# Altium schematic symbol library Schlib1.SchLib: 138 symbols
Pins are listed as number, name and electrical type; pins without a type are passive.

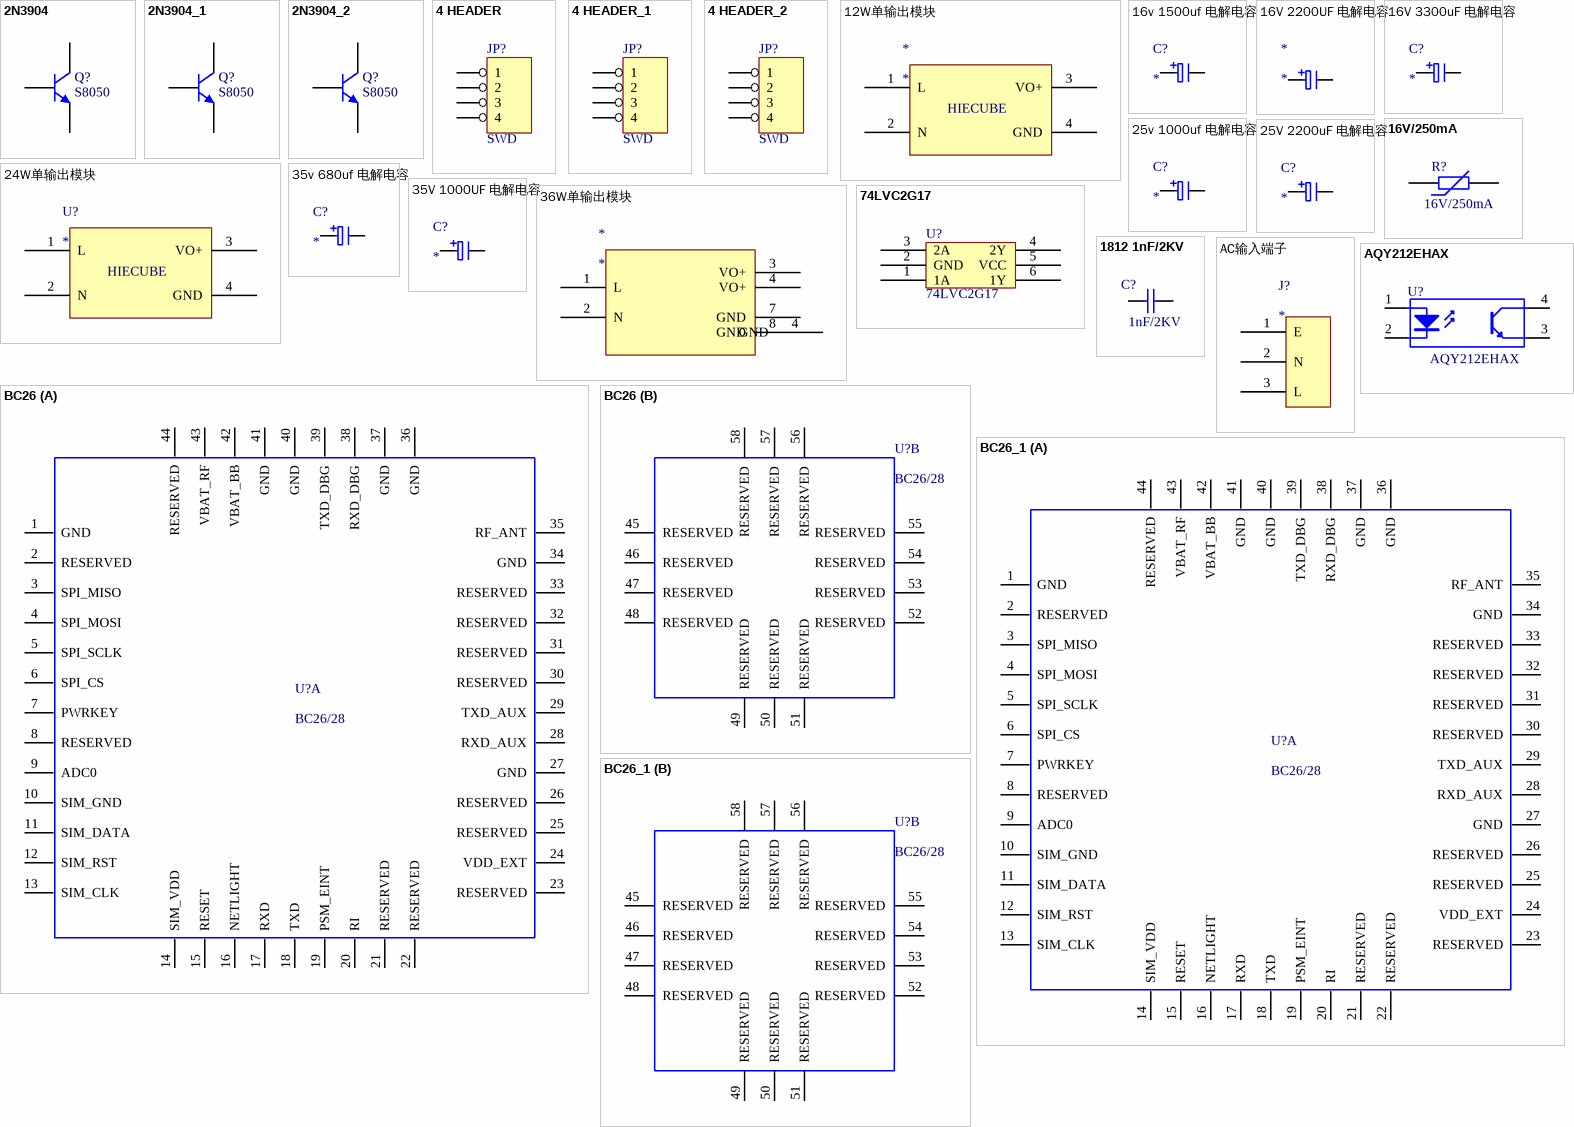
[diagram p0: symbols 2N3904 to BC26_1]

## 2N3904
designator Q?, comment S8050
NPN General Purpose Amplifier; Published: 8-Jun-2000; LatestRevisionDate: 15-Jan-2003; LatestRevisionNote: PCB Footprint 'BCY-W3/D4.7' replaced; DatasheetVersion: 1997; PackageVersion: Sep-1998; PackageReference: TO-92A; Publisher: Altium Limited; PackageDescription: TO, Flat Index; 3 In-Line, Axial Leads; Body Dia. 4.5mm; Leads 0.51 x 0.48 mm (max); ComponentLink1Description: Manufacturer Link; ComponentLink1URL: http://www.fairchildsemi.com/; ComponentLink2Description: Datasheet; ComponentLink2URL: http://www.fairchildsemi.com/ds/2N%2F2N3904.pdf
simulation model 2N3904 (NPN)
signal-integrity model 2N3904
footprint s8550
pins: 1 E, 2 B, 3 C

## 2N3904_1
designator Q?, comment S8050
NPN General Purpose Amplifier; Published: 8-Jun-2000; LatestRevisionDate: 15-Jan-2003; LatestRevisionNote: PCB Footprint 'BCY-W3/D4.7' replaced; DatasheetVersion: 1997; PackageVersion: Sep-1998; PackageReference: TO-92A; Publisher: Altium Limited; PackageDescription: TO, Flat Index; 3 In-Line, Axial Leads; Body Dia. 4.5mm; Leads 0.51 x 0.48 mm (max); ComponentLink1Description: Manufacturer Link; ComponentLink1URL: http://www.fairchildsemi.com/; ComponentLink2Description: Datasheet; ComponentLink2URL: http://www.fairchildsemi.com/ds/2N%2F2N3904.pdf
simulation model 2N3904 (NPN)
signal-integrity model 2N3904
footprint s8550
pins: 1 E, 2 B, 3 C

## 2N3904_2
designator Q?, comment S8050
NPN General Purpose Amplifier; Published: 8-Jun-2000; LatestRevisionDate: 15-Jan-2003; LatestRevisionNote: PCB Footprint 'BCY-W3/D4.7' replaced; DatasheetVersion: 1997; PackageVersion: Sep-1998; PackageReference: TO-92A; Publisher: Altium Limited; PackageDescription: TO, Flat Index; 3 In-Line, Axial Leads; Body Dia. 4.5mm; Leads 0.51 x 0.48 mm (max); ComponentLink1Description: Manufacturer Link; ComponentLink1URL: http://www.fairchildsemi.com/; ComponentLink2Description: Datasheet; ComponentLink2URL: http://www.fairchildsemi.com/ds/2N%2F2N3904.pdf
simulation model 2N3904 (NPN)
signal-integrity model 2N3904
footprint s8550
pins: 1 E, 2 B, 3 C

## 4 HEADER
designator JP?, comment SWD
4 Pin Header
footprint SIP4
pins: 1, 2, 3, 4

## 4 HEADER_1
designator JP?, comment SWD
4 Pin Header
footprint SIP4
pins: 1, 2, 3, 4

## 4 HEADER_2
designator JP?, comment SWD
4 Pin Header
footprint SIP4
pins: 1, 2, 3, 4

## 12W单输出模块
designator *
pins: 1 L, 2 N, 3 VO+, 4 GND
text: HIECUBE

## 16v 1500uf 电解电容
designator C?
pins: 1, 2

## 16V 2200UF 电解电容
designator *
pins: 1, 2

## 16V 3300uF 电解电容
designator C?
pins: 1, 2

## 16V/250mA
designator R?
自恢复保险丝
footprint LC-1206_R
pins: 1, 2

## 24W单输出模块
designator U?
pins: 1 L, 2 N, 3 VO+, 4 GND
text: HIECUBE

## 25v 1000uf 电解电容
designator C?
pins: 1, 2

## 25V 2200uF 电解电容
designator C?
pins: 1, 2

## 35v 680uf 电解电容
designator C?
pins: 1, 2

## 35V 1000UF 电解电容
designator C?
pins: 1, 2

## 36W单输出模块
designator *
pins: 1 L, 2 N, 3 VO+, 4 VO+, 4 GND, 7 GND, 8 GND

## 74LVC2G17
designator U?
pins: 1 1A, 2 GND, 3 2A, 4 2Y, 5 VCC, 6 1Y

## 1812 1nF/2KV
designator C?, comment 1nF/2KV
高压电容
footprint LC-1812_C
pins: 1, 2

## AC输入端子
designator J?
pins: 1 E, 2 N, 3 L

## AQY212EHAX
designator U?
光电固态继电器
footprint LC-SMD-4
pins: 1 A "Anode", 2 K "Cathode", 3 E "Emitter", 4 C "Collector"

## BC26
designator U?, comment BC26/28
Part Description: *; Value: *; Geometry.Height: *; Manufacturer: *; PCB DECAL: *
footprint bc26
part A pins: 1 GND, 2 RESERVED, 3 SPI_MISO, 4 SPI_MOSI, 5 SPI_SCLK, 6 SPI_CS, 7 PWRKEY, 8 RESERVED, 9 ADC0, 10 SIM_GND, 11 SIM_DATA, 12 SIM_RST, 13 SIM_CLK, 14 SIM_VDD, 15 RESET, 16 NETLIGHT, 17 RXD, 18 TXD, 19 PSM_EINT, 20 RI, 21 RESERVED, 22 RESERVED, 23 RESERVED, 24 VDD_EXT, 25 RESERVED, 26 RESERVED, 27 GND, 28 RXD_AUX, 29 TXD_AUX, 30 RESERVED, 31 RESERVED, 32 RESERVED, 33 RESERVED, 34 GND, 35 RF_ANT, 36 GND, 37 GND, 38 RXD_DBG, 39 TXD_DBG, 40 GND, 41 GND, 42 VBAT_BB, 43 VBAT_RF, 44 RESERVED
part B pins: 45 RESERVED, 46 RESERVED, 47 RESERVED, 48 RESERVED, 49 RESERVED, 50 RESERVED, 51 RESERVED, 52 RESERVED, 53 RESERVED, 54 RESERVED, 55 RESERVED, 56 RESERVED, 57 RESERVED, 58 RESERVED
2 alternate drawings of the same symbol

## BC26_1
designator U?, comment BC26/28
Part Description: *; Value: *; Geometry.Height: *; Manufacturer: *; PCB DECAL: *
footprint bc26
part A pins: 1 GND, 2 RESERVED, 3 SPI_MISO, 4 SPI_MOSI, 5 SPI_SCLK, 6 SPI_CS, 7 PWRKEY, 8 RESERVED, 9 ADC0, 10 SIM_GND, 11 SIM_DATA, 12 SIM_RST, 13 SIM_CLK, 14 SIM_VDD, 15 RESET, 16 NETLIGHT, 17 RXD, 18 TXD, 19 PSM_EINT, 20 RI, 21 RESERVED, 22 RESERVED, 23 RESERVED, 24 VDD_EXT, 25 RESERVED, 26 RESERVED, 27 GND, 28 RXD_AUX, 29 TXD_AUX, 30 RESERVED, 31 RESERVED, 32 RESERVED, 33 RESERVED, 34 GND, 35 RF_ANT, 36 GND, 37 GND, 38 RXD_DBG, 39 TXD_DBG, 40 GND, 41 GND, 42 VBAT_BB, 43 VBAT_RF, 44 RESERVED
part B pins: 45 RESERVED, 46 RESERVED, 47 RESERVED, 48 RESERVED, 49 RESERVED, 50 RESERVED, 51 RESERVED, 52 RESERVED, 53 RESERVED, 54 RESERVED, 55 RESERVED, 56 RESERVED, 57 RESERVED, 58 RESERVED
2 alternate drawings of the same symbol

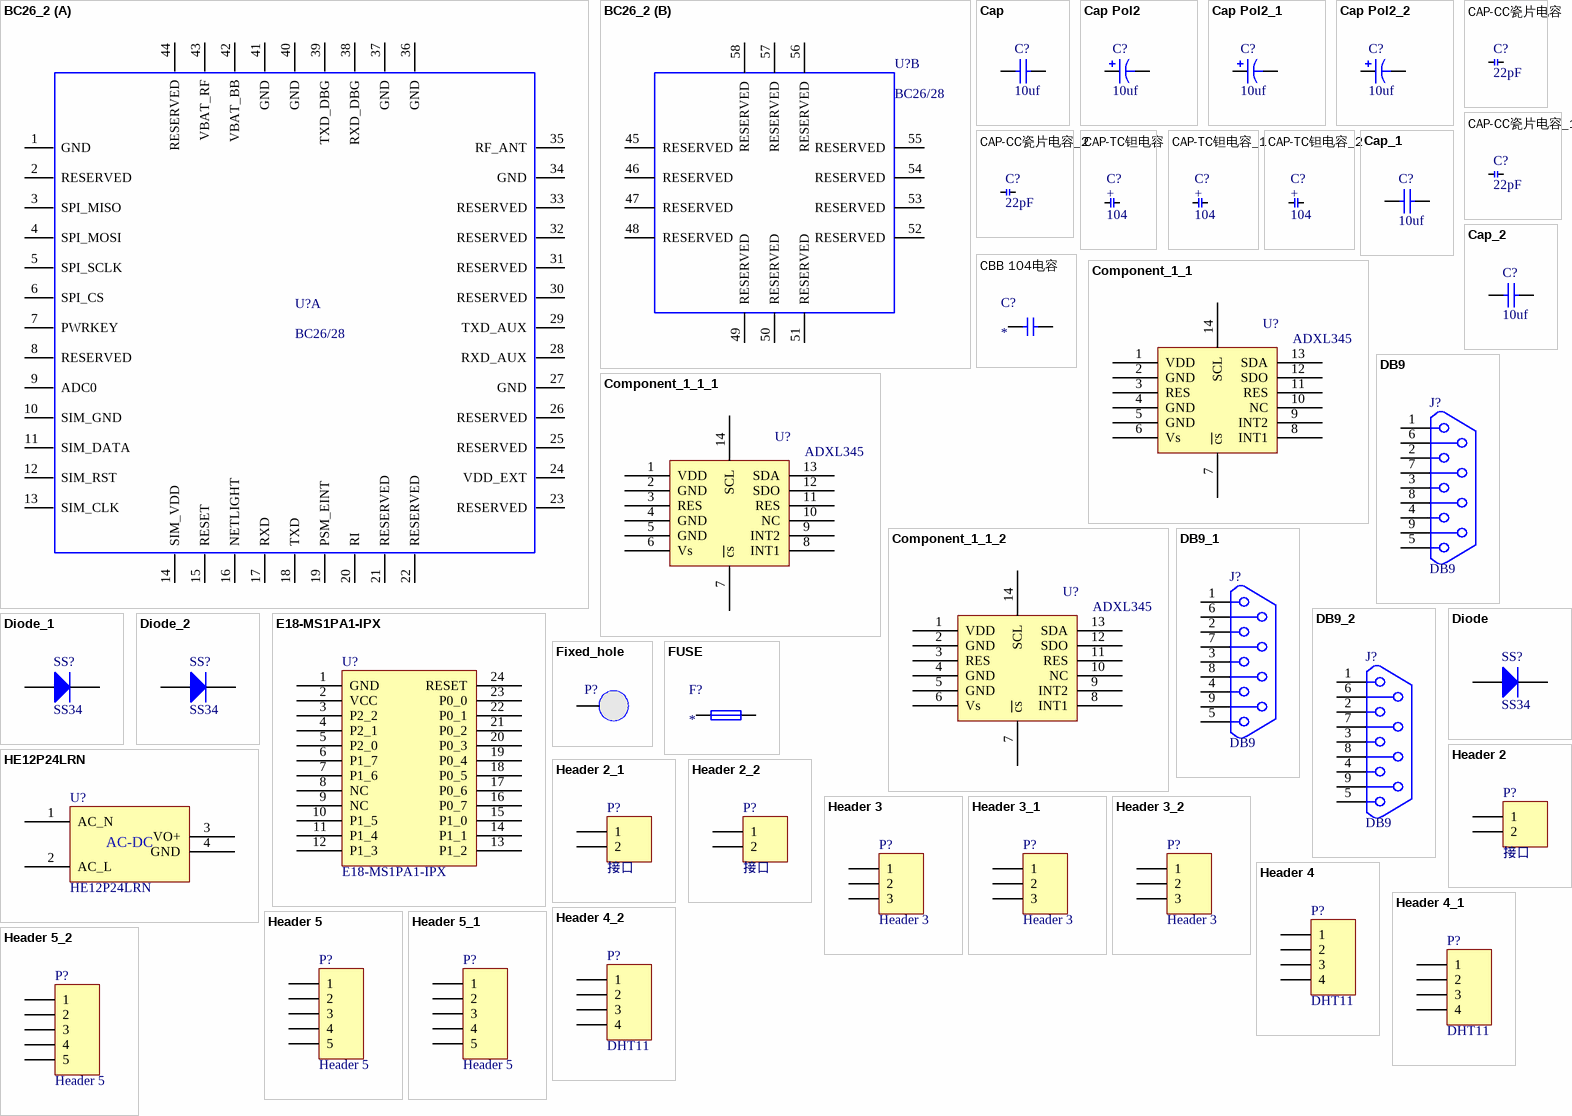
[diagram p1: symbols BC26_2 to Header 5_2]

## BC26_2
designator U?, comment BC26/28
Part Description: *; Value: *; Geometry.Height: *; Manufacturer: *; PCB DECAL: *
footprint bc26
part A pins: 1 GND, 2 RESERVED, 3 SPI_MISO, 4 SPI_MOSI, 5 SPI_SCLK, 6 SPI_CS, 7 PWRKEY, 8 RESERVED, 9 ADC0, 10 SIM_GND, 11 SIM_DATA, 12 SIM_RST, 13 SIM_CLK, 14 SIM_VDD, 15 RESET, 16 NETLIGHT, 17 RXD, 18 TXD, 19 PSM_EINT, 20 RI, 21 RESERVED, 22 RESERVED, 23 RESERVED, 24 VDD_EXT, 25 RESERVED, 26 RESERVED, 27 GND, 28 RXD_AUX, 29 TXD_AUX, 30 RESERVED, 31 RESERVED, 32 RESERVED, 33 RESERVED, 34 GND, 35 RF_ANT, 36 GND, 37 GND, 38 RXD_DBG, 39 TXD_DBG, 40 GND, 41 GND, 42 VBAT_BB, 43 VBAT_RF, 44 RESERVED
part B pins: 45 RESERVED, 46 RESERVED, 47 RESERVED, 48 RESERVED, 49 RESERVED, 50 RESERVED, 51 RESERVED, 52 RESERVED, 53 RESERVED, 54 RESERVED, 55 RESERVED, 56 RESERVED, 57 RESERVED, 58 RESERVED
2 alternate drawings of the same symbol

## Cap
designator C?, comment 10uf
Capacitor; Value: 100pF; Published: 8-Jun-2000; LatestRevisionDate: 17-Jul-2002; LatestRevisionNote: Re-released for DXP Platform.; PackageReference: RAD-0.3; Publisher: Altium Limited; PackageDescription: Radial Cap, Thru-Hole; 2 Leads; 0.3 in Pin Spacing
simulation model CAP (Capacitor)
signal-integrity model Cap
footprint 0603A
pins: 1, 2

## Cap Pol2
designator C?, comment 10uf
Polarized Capacitor (Axial); Value: 100pF; Published: 8-Jun-2000; LatestRevisionDate: 17-Jul-2002; LatestRevisionNote: Re-released for DXP Platform.; PackageReference: POLAR0.8; Publisher: Altium Limited; PackageDescription: Polarized Capacitor; 2 Leads
footprint 1206
simulation model CAP (Capacitor)
signal-integrity model Cap Pol
pins: 1, 2
1 alternate drawing of the same symbol

## Cap Pol2_1
designator C?, comment 10uf
Polarized Capacitor (Axial); Value: 100pF; Published: 8-Jun-2000; LatestRevisionDate: 17-Jul-2002; LatestRevisionNote: Re-released for DXP Platform.; PackageReference: POLAR0.8; Publisher: Altium Limited; PackageDescription: Polarized Capacitor; 2 Leads
footprint 1206
simulation model CAP (Capacitor)
signal-integrity model Cap Pol
pins: 1, 2
1 alternate drawing of the same symbol

## Cap Pol2_2
designator C?, comment 10uf
Polarized Capacitor (Axial); Value: 100pF; Published: 8-Jun-2000; LatestRevisionDate: 17-Jul-2002; LatestRevisionNote: Re-released for DXP Platform.; PackageReference: POLAR0.8; Publisher: Altium Limited; PackageDescription: Polarized Capacitor; 2 Leads
footprint 1206
simulation model CAP (Capacitor)
signal-integrity model Cap Pol
pins: 1, 2
1 alternate drawing of the same symbol

## CAP-CC瓷片电容
designator C?, comment 22pF
footprint 0603A
pins: 1, 2

## CAP-CC瓷片电容_1
designator C?, comment 22pF
footprint 0603A
pins: 1, 2

## CAP-CC瓷片电容_2
designator C?, comment 22pF
footprint 0603A
pins: 1, 2

## CAP-TC钽电容
designator C?, comment 104
footprint 0603A
pins: 1 +, 2 -
2 alternate drawings of the same symbol

## CAP-TC钽电容_1
designator C?, comment 104
footprint 0603A
pins: 1 +, 2 -
2 alternate drawings of the same symbol

## CAP-TC钽电容_2
designator C?, comment 104
footprint 0603A
pins: 1 +, 2 -
2 alternate drawings of the same symbol

## Cap_1
designator C?, comment 10uf
Capacitor; Value: 100pF; Published: 8-Jun-2000; LatestRevisionDate: 17-Jul-2002; LatestRevisionNote: Re-released for DXP Platform.; PackageReference: RAD-0.3; Publisher: Altium Limited; PackageDescription: Radial Cap, Thru-Hole; 2 Leads; 0.3 in Pin Spacing
simulation model CAP (Capacitor)
signal-integrity model Cap
footprint 0603A
pins: 1, 2

## Cap_2
designator C?, comment 10uf
Capacitor; Value: 100pF; Published: 8-Jun-2000; LatestRevisionDate: 17-Jul-2002; LatestRevisionNote: Re-released for DXP Platform.; PackageReference: RAD-0.3; Publisher: Altium Limited; PackageDescription: Radial Cap, Thru-Hole; 2 Leads; 0.3 in Pin Spacing
simulation model CAP (Capacitor)
signal-integrity model Cap
footprint 0603A
pins: 1, 2

## CBB 104电容
designator C?
pins: 1, 2

## Component_1_1
designator U?, comment ADXL345
footprint adxl345
pins: 1 VDD, 2 GND, 3 RES, 4 GND, 5 GND, 6 Vs, 7 ~{cs}, 8 INT1, 9 INT2, 10 NC, 11 RES, 12 SDO, 13 SDA, 14 SCL

## Component_1_1_1
designator U?, comment ADXL345
footprint adxl345
pins: 1 VDD, 2 GND, 3 RES, 4 GND, 5 GND, 6 Vs, 7 ~{cs}, 8 INT1, 9 INT2, 10 NC, 11 RES, 12 SDO, 13 SDA, 14 SCL

## Component_1_1_2
designator U?, comment ADXL345
footprint adxl345
pins: 1 VDD, 2 GND, 3 RES, 4 GND, 5 GND, 6 Vs, 7 ~{cs}, 8 INT1, 9 INT2, 10 NC, 11 RES, 12 SDO, 13 SDA, 14 SCL

## DB9
designator J?
footprint DB9_M
pins: 1, 2, 3, 4, 5, 6, 7, 8, 9
2 alternate drawings of the same symbol

## DB9_1
designator J?, comment DB9
footprint DB9_M
pins: 1, 2, 3, 4, 5, 6, 7, 8, 9
2 alternate drawings of the same symbol

## DB9_2
designator J?, comment DB9
footprint DB9_M
pins: 1, 2, 3, 4, 5, 6, 7, 8, 9
2 alternate drawings of the same symbol

## Diode
designator SS?, comment SS34
Default Diode; Published: 8-Jun-2000; LatestRevisionDate: 17-Jul-2002; LatestRevisionNote: Re-released for DXP Platform.; PackageVersion: Sep-1996; PackageReference: SMC; Publisher: Altium Limited; PackageDescription: DO-214-AB/SMC; 2 C-Bend Leads; Body 7.9 x 5.9 mm, inc. leads (LxW); Code_JEDEC: DO-214-AB
footprint SMB (DO-214-AA/SMB; 2 C-Bend Leads; Body 5.3 x 3.6 mm, inc. leads (LxW))
simulation model DIODE (Diode)
signal-integrity model Diode
pins: 1 A, 2 K

## Diode_1
designator SS?, comment SS34
Default Diode; Published: 8-Jun-2000; LatestRevisionDate: 17-Jul-2002; LatestRevisionNote: Re-released for DXP Platform.; PackageVersion: Sep-1996; PackageReference: SMC; Publisher: Altium Limited; PackageDescription: DO-214-AB/SMC; 2 C-Bend Leads; Body 7.9 x 5.9 mm, inc. leads (LxW); Code_JEDEC: DO-214-AB
footprint SMB (DO-214-AA/SMB; 2 C-Bend Leads; Body 5.3 x 3.6 mm, inc. leads (LxW))
simulation model DIODE (Diode)
signal-integrity model Diode
pins: 1 A, 2 K

## Diode_2
designator SS?, comment SS34
Default Diode; Published: 8-Jun-2000; LatestRevisionDate: 17-Jul-2002; LatestRevisionNote: Re-released for DXP Platform.; PackageVersion: Sep-1996; PackageReference: SMC; Publisher: Altium Limited; PackageDescription: DO-214-AB/SMC; 2 C-Bend Leads; Body 7.9 x 5.9 mm, inc. leads (LxW); Code_JEDEC: DO-214-AB
footprint SMB (DO-214-AA/SMB; 2 C-Bend Leads; Body 5.3 x 3.6 mm, inc. leads (LxW))
simulation model DIODE (Diode)
signal-integrity model Diode
pins: 1 A, 2 K

## E18-MS1PA1-IPX
designator U?
footprint E18-MS1PA1-IPX
pins: 1 GND, 2 VCC, 3 P2_2, 4 P2_1, 5 P2_0, 6 P1_7, 7 P1_6, 8 NC, 9 NC, 10 P1_5, 11 P1_4, 12 P1_3, 13 P1_2, 14 P1_1, 15 P1_0, 16 P0_7, 17 P0_6, 18 P0_5, 19 P0_4, 20 P0_3, 21 P0_2, 22 P0_1, 23 P0_0, 24 RESET

## Fixed_hole
designator P?  (value not drawn)
固定孔
footprint Fixed_hole (固定孔)
pins: 1 (power)

## FUSE
designator F?
pins: 1, 2

## HE12P24LRN
designator U?
footprint HE12P24LRN
pins: 1 AC_N, 2 AC_L, 3 VO+, 4 GND
text: AC-DC

## Header 2
designator P?, comment 接口
Header, 2-Pin; LatestRevisionDate: 17-Jul-2002; LatestRevisionNote: Re-released for DXP Platform.; Publisher: Altium Limited
footprint HDR1X2 (Connector; Header; 2 Position)
signal-integrity model Connector
pins: 1, 2

## Header 2_1
designator P?, comment 接口
Header, 2-Pin; LatestRevisionDate: 17-Jul-2002; LatestRevisionNote: Re-released for DXP Platform.; Publisher: Altium Limited
footprint HDR1X2 (Connector; Header; 2 Position)
signal-integrity model Connector
pins: 1, 2

## Header 2_2
designator P?, comment 接口
Header, 2-Pin; LatestRevisionDate: 17-Jul-2002; LatestRevisionNote: Re-released for DXP Platform.; Publisher: Altium Limited
footprint HDR1X2 (Connector; Header; 2 Position)
signal-integrity model Connector
pins: 1, 2

## Header 3
designator P?
Header, 3-Pin; LatestRevisionDate: 17-Jul-2002; LatestRevisionNote: Re-released for DXP Platform.; Publisher: Altium Limited
footprint PIN3-5
signal-integrity model Connector
pins: 1, 2, 3

## Header 3_1
designator P?, comment Header 3
Header, 3-Pin; LatestRevisionDate: 17-Jul-2002; LatestRevisionNote: Re-released for DXP Platform.; Publisher: Altium Limited
footprint PIN3-5
signal-integrity model Connector
pins: 1, 2, 3

## Header 3_2
designator P?, comment Header 3
Header, 3-Pin; LatestRevisionDate: 17-Jul-2002; LatestRevisionNote: Re-released for DXP Platform.; Publisher: Altium Limited
footprint PIN3-5
signal-integrity model Connector
pins: 1, 2, 3

## Header 4
designator P?, comment DHT11
Header, 4-Pin; LatestRevisionDate: 17-Jul-2002; LatestRevisionNote: Re-released for DXP Platform.; Publisher: Altium Limited
footprint HDR1X4 (Connector; Header; 4 Position)
signal-integrity model Connector
pins: 1, 2, 3, 4

## Header 4_1
designator P?, comment DHT11
Header, 4-Pin; LatestRevisionDate: 17-Jul-2002; LatestRevisionNote: Re-released for DXP Platform.; Publisher: Altium Limited
footprint HDR1X4 (Connector; Header; 4 Position)
signal-integrity model Connector
pins: 1, 2, 3, 4

## Header 4_2
designator P?, comment DHT11
Header, 4-Pin; LatestRevisionDate: 17-Jul-2002; LatestRevisionNote: Re-released for DXP Platform.; Publisher: Altium Limited
footprint HDR1X4 (Connector; Header; 4 Position)
signal-integrity model Connector
pins: 1, 2, 3, 4

## Header 5
designator P?
Header, 5-Pin; LatestRevisionDate: 17-Jul-2002; LatestRevisionNote: Re-released for DXP Platform.; Publisher: Altium Limited
footprint MICRO_USB
signal-integrity model Connector
pins: 1, 2, 3, 4, 5

## Header 5_1
designator P?, comment Header 5
Header, 5-Pin; LatestRevisionDate: 17-Jul-2002; LatestRevisionNote: Re-released for DXP Platform.; Publisher: Altium Limited
footprint MICRO_USB
signal-integrity model Connector
pins: 1, 2, 3, 4, 5

## Header 5_2
designator P?, comment Header 5
Header, 5-Pin; LatestRevisionDate: 17-Jul-2002; LatestRevisionNote: Re-released for DXP Platform.; Publisher: Altium Limited
footprint MICRO_USB
signal-integrity model Connector
pins: 1, 2, 3, 4, 5

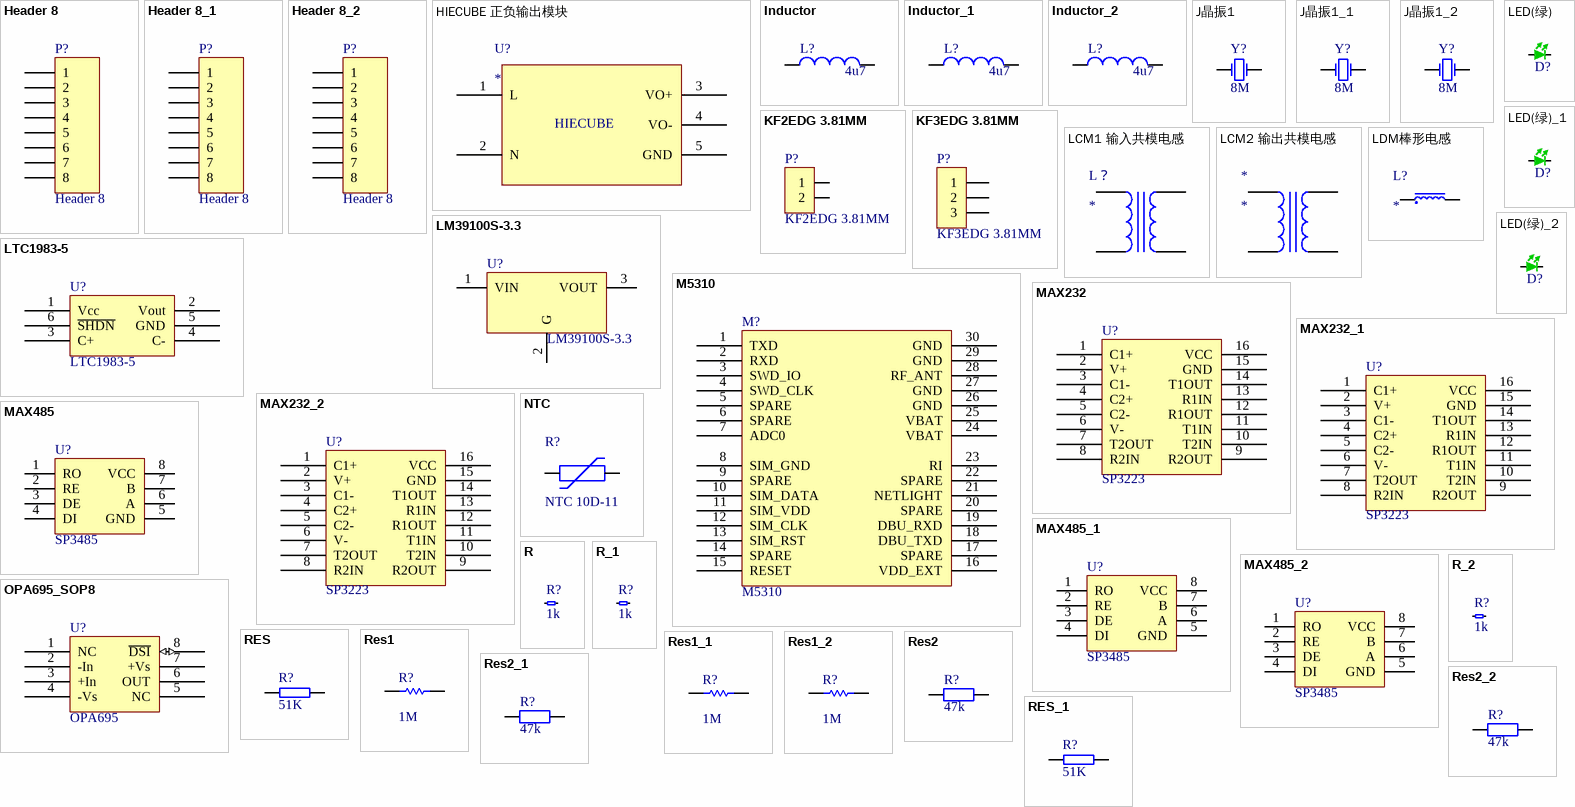
[diagram p2: symbols Header 8 to RES_1]

## Header 8
designator P?
Header, 8-Pin; LatestRevisionDate: 17-Jul-2002; LatestRevisionNote: Re-released for DXP Platform.; Publisher: Altium Limited
footprint HDR1X8 (Connector; Header; 8 Position)
signal-integrity model Connector
pins: 1, 2, 3, 4, 5, 6, 7, 8

## Header 8_1
designator P?, comment Header 8
Header, 8-Pin; LatestRevisionDate: 17-Jul-2002; LatestRevisionNote: Re-released for DXP Platform.; Publisher: Altium Limited
footprint HDR1X8 (Connector; Header; 8 Position)
signal-integrity model Connector
pins: 1, 2, 3, 4, 5, 6, 7, 8

## Header 8_2
designator P?, comment Header 8
Header, 8-Pin; LatestRevisionDate: 17-Jul-2002; LatestRevisionNote: Re-released for DXP Platform.; Publisher: Altium Limited
footprint HDR1X8 (Connector; Header; 8 Position)
signal-integrity model Connector
pins: 1, 2, 3, 4, 5, 6, 7, 8

## HIECUBE 正负输出模块
designator U?
pins: 1 L, 2 N, 3 VO+, 4 VO-, 5 GND
text: HIECUBE

## Inductor
designator L?, comment 4u7
Inductor; Code_IEC: 1005; Value: 10mH; Published: 8-Jun-2000; LatestRevisionDate: 29-May-2009; LatestRevisionNote: IPC-7351 Footprint Added.; PackageReference: 0402-A; Publisher: Altium Limited; PackageDescription: Chip Inductor; Code_JEITA: 0402
footprint cd54
footprint INDC1608L (Chip Inductor, Body 1.6x0.8mm, IPC High Density)
footprint 2029 (Chip Inductor, Body 2.0x1.2mm, IPC High Density)
footprint 0603 (Chip Inductor, Body 0.6x0.3mm, IPC High Density)
footprint INDC3216 (Chip Inductor, Body 3.2x1.6mm, IPC High Density)
footprint INDC4532 (Chip Inductor, Body 4.5x3.2mm, IPC High Density)
simulation model INDUCTOR (Inductor)
signal-integrity model Inductor
pins: 1, 2

## Inductor_1
designator L?, comment 4u7
Inductor; Code_IEC: 1005; Value: 10mH; Published: 8-Jun-2000; LatestRevisionDate: 29-May-2009; LatestRevisionNote: IPC-7351 Footprint Added.; PackageReference: 0402-A; Publisher: Altium Limited; PackageDescription: Chip Inductor; Code_JEITA: 0402
footprint cd54
footprint INDC1608L (Chip Inductor, Body 1.6x0.8mm, IPC High Density)
footprint 2029 (Chip Inductor, Body 2.0x1.2mm, IPC High Density)
footprint 0603 (Chip Inductor, Body 0.6x0.3mm, IPC High Density)
footprint INDC3216 (Chip Inductor, Body 3.2x1.6mm, IPC High Density)
footprint INDC4532 (Chip Inductor, Body 4.5x3.2mm, IPC High Density)
simulation model INDUCTOR (Inductor)
signal-integrity model Inductor
pins: 1, 2

## Inductor_2
designator L?, comment 4u7
Inductor; Code_IEC: 1005; Value: 10mH; Published: 8-Jun-2000; LatestRevisionDate: 29-May-2009; LatestRevisionNote: IPC-7351 Footprint Added.; PackageReference: 0402-A; Publisher: Altium Limited; PackageDescription: Chip Inductor; Code_JEITA: 0402
footprint cd54
footprint INDC1608L (Chip Inductor, Body 1.6x0.8mm, IPC High Density)
footprint 2029 (Chip Inductor, Body 2.0x1.2mm, IPC High Density)
footprint 0603 (Chip Inductor, Body 0.6x0.3mm, IPC High Density)
footprint INDC3216 (Chip Inductor, Body 3.2x1.6mm, IPC High Density)
footprint INDC4532 (Chip Inductor, Body 4.5x3.2mm, IPC High Density)
simulation model INDUCTOR (Inductor)
signal-integrity model Inductor
pins: 1, 2

## J晶振1
designator Y?, comment 8M
24MHZ; Published: 17-Jul-2002; DatasheetDocument: 18-Apr-2000; PackageReference: HC-49U; Publisher: Altium Limited
footprint XTAL
pins: 1 OSC1, 2 OSC2

## J晶振1_1
designator Y?, comment 8M
24MHZ; Published: 17-Jul-2002; DatasheetDocument: 18-Apr-2000; PackageReference: HC-49U; Publisher: Altium Limited
footprint XTAL
pins: 1 OSC1, 2 OSC2

## J晶振1_2
designator Y?, comment 8M
24MHZ; Published: 17-Jul-2002; DatasheetDocument: 18-Apr-2000; PackageReference: HC-49U; Publisher: Altium Limited
footprint XTAL
pins: 1 OSC1, 2 OSC2

## KF2EDG 3.81MM
designator P?
footprint KF2EDG 3.81MM
pins: 1, 2

## KF3EDG 3.81MM
designator P?
pins: 1, 2, 3

## LCM1 输入共模电感
designator L？
pins: 1, 2, 3, 4

## LCM2 输出共模电感
designator *
pins: 1, 2, 3, 4

## LDM棒形电感
designator L?
pins: 1, 2

## LED(绿)
designator D?, comment LED(红)  (value not drawn)
footprint 0603LED
pins: 1, 2
2 alternate drawings of the same symbol

## LED(绿)_1
designator D?, comment LED(红)  (value not drawn)
footprint 0603LED
pins: 1, 2
2 alternate drawings of the same symbol

## LED(绿)_2
designator D?, comment LED(红)  (value not drawn)
footprint 0603LED
pins: 1, 2
2 alternate drawings of the same symbol

## LM39100S-3.3
designator U?
footprint LC-SOT-223
pins: 1 VIN, 2 G, 3 VOUT

## LTC1983-5
designator U?
footprint SOT-23-6
pins: 1 Vcc (power), 2 Vout (power), 3 C+, 4 C-, 5 GND (power), 6 ~{SHDN}

## M5310
designator M?
footprint ME5310
pins: 1 TXD, 2 RXD, 3 SWD_IO, 4 SWD_CLK, 5 SPARE, 6 SPARE, 7 ADC0, 8 SIM_GND, 9 SPARE, 10 SIM_DATA, 11 SIM_VDD, 12 SIM_CLK, 13 SIM_RST, 14 SPARE, 15 RESET, 16 VDD_EXT, 17 SPARE, 18 DBU_TXD, 19 DBU_RXD, 20 SPARE, 21 NETLIGHT, 22 SPARE, 23 RI, 24 VBAT, 25 VBAT, 26 GND, 27 GND, 28 RF_ANT, 29 GND, 30 GND

## MAX232
designator U?, comment SP3223
footprint sop16
pins: 1 C1+, 2 V+, 3 C1-, 4 C2+, 5 C2-, 6 V-, 7 T2OUT, 8 R2IN, 9 R2OUT, 10 T2IN, 11 T1IN, 12 R1OUT, 13 R1IN, 14 T1OUT, 15 GND, 16 VCC
2 alternate drawings of the same symbol

## MAX232_1
designator U?, comment SP3223
footprint sop16
pins: 1 C1+, 2 V+, 3 C1-, 4 C2+, 5 C2-, 6 V-, 7 T2OUT, 8 R2IN, 9 R2OUT, 10 T2IN, 11 T1IN, 12 R1OUT, 13 R1IN, 14 T1OUT, 15 GND, 16 VCC
2 alternate drawings of the same symbol

## MAX232_2
designator U?, comment SP3223
footprint sop16
pins: 1 C1+, 2 V+, 3 C1-, 4 C2+, 5 C2-, 6 V-, 7 T2OUT, 8 R2IN, 9 R2OUT, 10 T2IN, 11 T1IN, 12 R1OUT, 13 R1IN, 14 T1OUT, 15 GND, 16 VCC
2 alternate drawings of the same symbol

## MAX485
designator U?, comment SP3485
footprint SO-8
pins: 1 RO, 2 RE, 3 DE, 4 DI, 5 GND, 6 A, 7 B, 8 VCC

## MAX485_1
designator U?, comment SP3485
footprint SO-8
pins: 1 RO, 2 RE, 3 DE, 4 DI, 5 GND, 6 A, 7 B, 8 VCC

## MAX485_2
designator U?, comment SP3485
footprint SO-8
pins: 1 RO, 2 RE, 3 DE, 4 DI, 5 GND, 6 A, 7 B, 8 VCC

## NTC
designator R?, comment NTC 10D-11
10D-11  NTC
footprint AXIAL-0.8 (Axial Device, Thru-Hole; 2 Leads; 0.8 in Pin Spacing)
pins: 1, 2

## OPA695_SOP8
designator U?, comment OPA695
OPA695_SOP8
footprint LC-SOIC-8_150mil
pins: 1 NC, 2 -In, 3 +In, 4 -Vs (power), 5 NC, 6 OUT, 7 +Vs (power), 8 ~{DSI} (io)

## R
designator R?, comment 1k
footprint 0603A
pins: 1, 2
2 alternate drawings of the same symbol

## R_1
designator R?, comment 1k
footprint 0603A
pins: 1, 2
2 alternate drawings of the same symbol

## R_2
designator R?, comment 1k
footprint 0603A
pins: 1, 2
2 alternate drawings of the same symbol

## RES
designator R?, comment 51K
footprint 0603A
pins: 1, 2

## Res1
designator R?  value 1M
Resistor; Published: 8-Jun-2000; LatestRevisionDate: 17-Jul-2002; LatestRevisionNote: Re-released for DXP Platform.; PackageReference: AXIAL-0.3; Publisher: Altium Limited; PackageDescription: Axial Device, Thru-Hole; 2 Leads; 0.3 in Pin Spacing
simulation model RESISTOR (Resistor)
signal-integrity model Res
footprint 0603A
pins: 1, 2

## Res1_1
designator R?  value 1M
Resistor; Published: 8-Jun-2000; LatestRevisionDate: 17-Jul-2002; LatestRevisionNote: Re-released for DXP Platform.; PackageReference: AXIAL-0.3; Publisher: Altium Limited; PackageDescription: Axial Device, Thru-Hole; 2 Leads; 0.3 in Pin Spacing
simulation model RESISTOR (Resistor)
signal-integrity model Res
footprint 0603A
pins: 1, 2

## Res1_2
designator R?  value 1M
Resistor; Published: 8-Jun-2000; LatestRevisionDate: 17-Jul-2002; LatestRevisionNote: Re-released for DXP Platform.; PackageReference: AXIAL-0.3; Publisher: Altium Limited; PackageDescription: Axial Device, Thru-Hole; 2 Leads; 0.3 in Pin Spacing
simulation model RESISTOR (Resistor)
signal-integrity model Res
footprint 0603A
pins: 1, 2

## Res2
designator R?, comment 47k
Resistor; Value: 10K; Published: 8-Jun-2000; LatestRevisionDate: 17-Jul-2002; LatestRevisionNote: Re-released for DXP Platform.; PackageReference: AXIAL-0.4; Publisher: Altium Limited; PackageDescription: Axial Device, Thru-Hole; 2 Leads; 0.4 in Pin Spacing
footprint 0603A
pins: 1, 2
2 alternate drawings of the same symbol

## Res2_1
designator R?, comment 47k
Resistor; Value: 10K; Published: 8-Jun-2000; LatestRevisionDate: 17-Jul-2002; LatestRevisionNote: Re-released for DXP Platform.; PackageReference: AXIAL-0.4; Publisher: Altium Limited; PackageDescription: Axial Device, Thru-Hole; 2 Leads; 0.4 in Pin Spacing
footprint 0603A
pins: 1, 2
2 alternate drawings of the same symbol

## Res2_2
designator R?, comment 47k
Resistor; Value: 10K; Published: 8-Jun-2000; LatestRevisionDate: 17-Jul-2002; LatestRevisionNote: Re-released for DXP Platform.; PackageReference: AXIAL-0.4; Publisher: Altium Limited; PackageDescription: Axial Device, Thru-Hole; 2 Leads; 0.4 in Pin Spacing
footprint 0603A
pins: 1, 2
2 alternate drawings of the same symbol

## RES_1
designator R?, comment 51K
footprint 0603A
pins: 1, 2

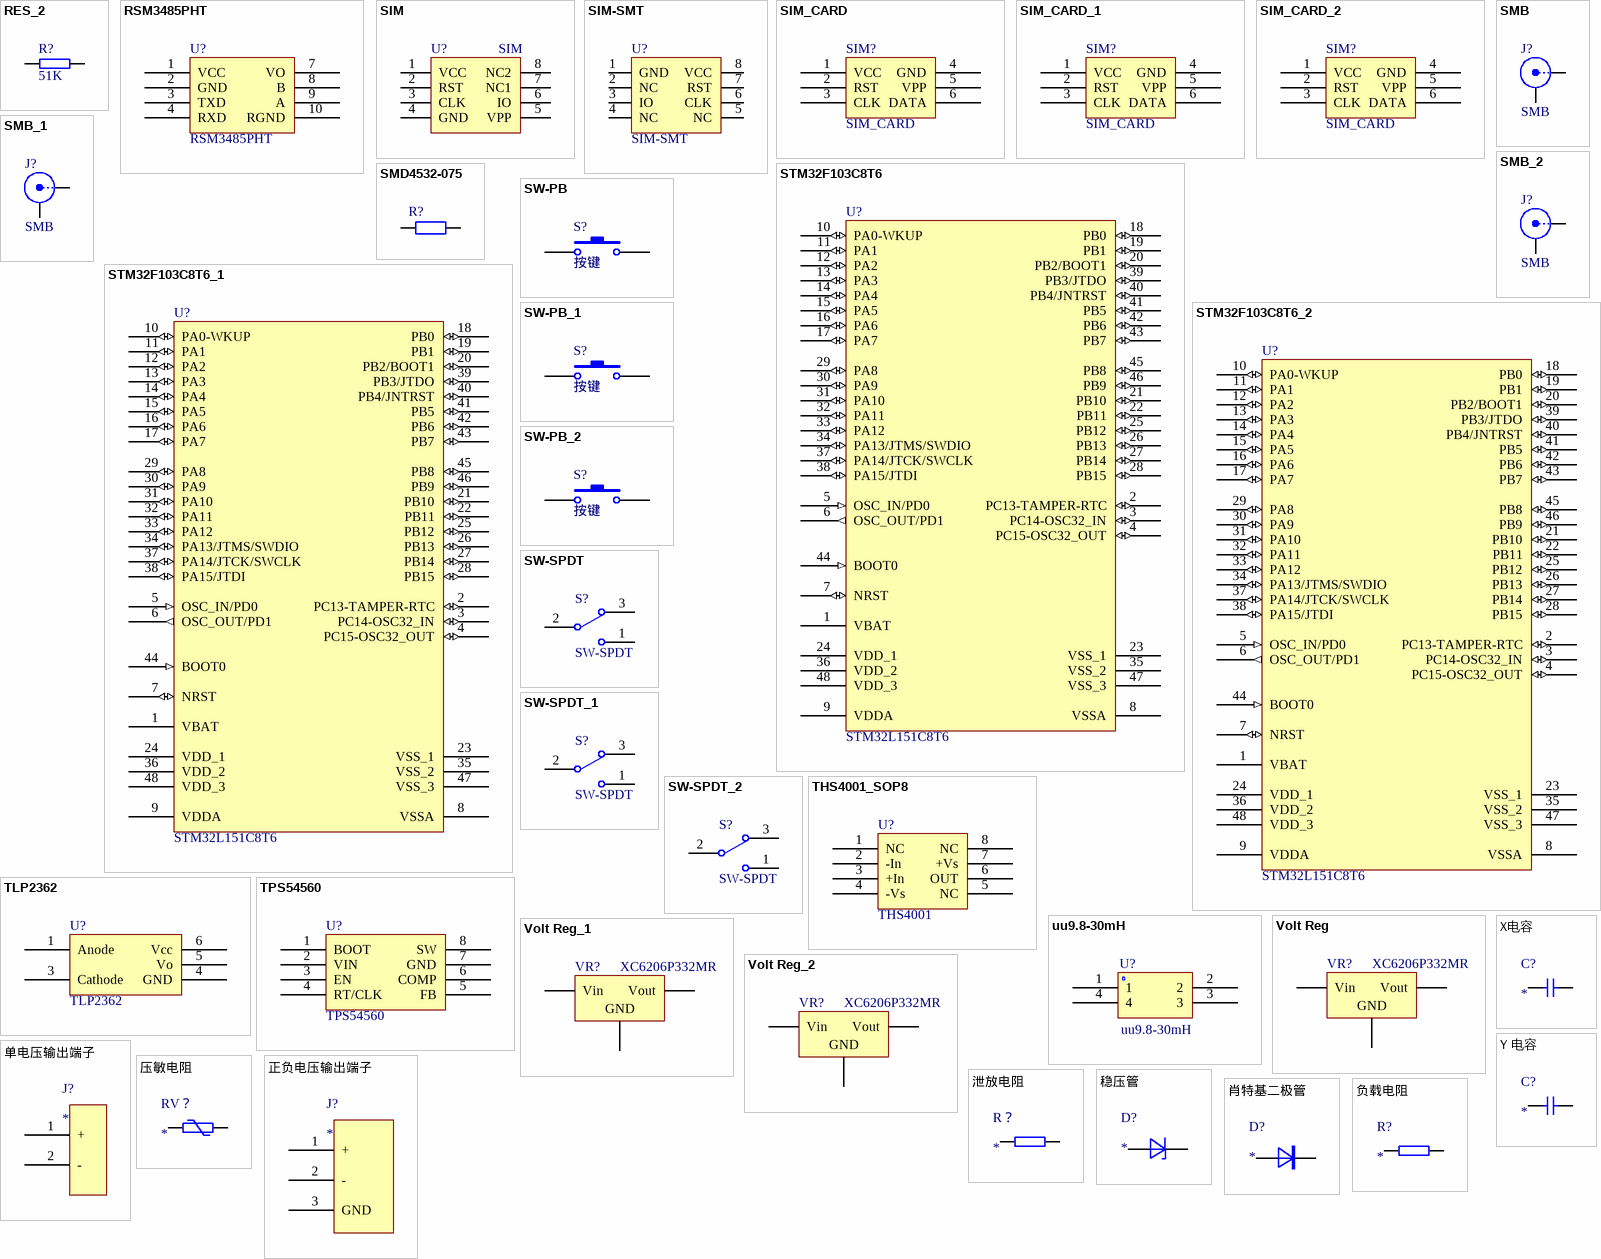
[diagram p3: symbols RES_2 to 负载电阻]

## RES_2
designator R?, comment 51K
footprint 0603A
pins: 1, 2

## RSM3485PHT
designator U?
footprint RSM3485PHT
pins: 1 VCC (power), 2 GND (power), 3 TXD (power), 4 RXD (power), 7 VO (power), 8 B (power), 9 A (power), 10 RGND (power)

## SIM
designator U?
footprint SIM-MUP
pins: 1 VCC, 2 RST, 3 CLK, 4 GND, 5 VPP, 6 IO, 7 NC1, 8 NC2

## SIM-SMT
designator U?
footprint SIM-SOP (SON, 8-Leads, Body 5.00x6.00mm, Pitch 1.27mm, IPC Medium Density)
pins: 1 GND, 2 NC, 3 IO, 4 NC, 5 NC, 6 CLK, 7 RST, 8 VCC

## SIM_CARD
designator SIM?
footprint microSIMauto
pins: 1 VCC, 2 RST, 3 CLK, 4 GND, 5 VPP, 6 DATA

## SIM_CARD_1
designator SIM?, comment SIM_CARD
footprint microSIMauto
pins: 1 VCC, 2 RST, 3 CLK, 4 GND, 5 VPP, 6 DATA

## SIM_CARD_2
designator SIM?, comment SIM_CARD
footprint microSIMauto
pins: 1 VCC, 2 RST, 3 CLK, 4 GND, 5 VPP, 6 DATA

## SMB
designator J?
SMB Straight Connector; LatestRevisionDate: 17-Jul-2002; LatestRevisionNote: Re-released for DXP Platform.; Publisher: Altium Limited
footprint SMA
signal-integrity model Connector
pins: 1 X, 2 Y

## SMB_1
designator J?, comment SMB
SMB Straight Connector; LatestRevisionDate: 17-Jul-2002; LatestRevisionNote: Re-released for DXP Platform.; Publisher: Altium Limited
footprint SMA
signal-integrity model Connector
pins: 1 X, 2 Y

## SMB_2
designator J?, comment SMB
SMB Straight Connector; LatestRevisionDate: 17-Jul-2002; LatestRevisionNote: Re-released for DXP Platform.; Publisher: Altium Limited
footprint SMA
signal-integrity model Connector
pins: 1 X, 2 Y

## SMD4532-075
designator R?  (value not drawn)
放电管
footprint LC-1812_R
pins: 1, 2

## STM32F103C8T6
designator U?, comment STM32L151C8T6
footprint QFP48
pins: 1 VBAT (power), 2 PC13-TAMPER-RTC (io), 3 PC14-OSC32_IN (io), 4 PC15-OSC32_OUT (io), 5 OSC_IN/PD0 (in), 6 OSC_OUT/PD1 (out), 7 NRST (io), 8 VSSA (power), 9 VDDA (power), 10 PA0-WKUP (io), 11 PA1 (io), 12 PA2 (io), 13 PA3 (io), 14 PA4 (io), 15 PA5 (io), 16 PA6 (io), 17 PA7 (io), 18 PB0 (io), 19 PB1 (io), 20 PB2/BOOT1 (io), 21 PB10 (io), 22 PB11 (io), 23 VSS_1 (power), 24 VDD_1 (power), 25 PB12 (io), 26 PB13 (io), 27 PB14 (io), 28 PB15 (io), 29 PA8 (io), 30 PA9 (io), 31 PA10 (io), 32 PA11 (io), 33 PA12 (io), 34 PA13/JTMS/SWDIO (io), 35 VSS_2 (power), 36 VDD_2 (power), 37 PA14/JTCK/SWCLK (io), 38 PA15/JTDI (io), 39 PB3/JTDO (io), 40 PB4/JNTRST (io), 41 PB5 (io), 42 PB6 (io), 43 PB7 (io), 44 BOOT0 (in), 45 PB8 (io), 46 PB9 (io), 47 VSS_3 (power), 48 VDD_3 (power)
2 alternate drawings of the same symbol

## STM32F103C8T6_1
designator U?, comment STM32L151C8T6
footprint QFP48
pins: 1 VBAT (power), 2 PC13-TAMPER-RTC (io), 3 PC14-OSC32_IN (io), 4 PC15-OSC32_OUT (io), 5 OSC_IN/PD0 (in), 6 OSC_OUT/PD1 (out), 7 NRST (io), 8 VSSA (power), 9 VDDA (power), 10 PA0-WKUP (io), 11 PA1 (io), 12 PA2 (io), 13 PA3 (io), 14 PA4 (io), 15 PA5 (io), 16 PA6 (io), 17 PA7 (io), 18 PB0 (io), 19 PB1 (io), 20 PB2/BOOT1 (io), 21 PB10 (io), 22 PB11 (io), 23 VSS_1 (power), 24 VDD_1 (power), 25 PB12 (io), 26 PB13 (io), 27 PB14 (io), 28 PB15 (io), 29 PA8 (io), 30 PA9 (io), 31 PA10 (io), 32 PA11 (io), 33 PA12 (io), 34 PA13/JTMS/SWDIO (io), 35 VSS_2 (power), 36 VDD_2 (power), 37 PA14/JTCK/SWCLK (io), 38 PA15/JTDI (io), 39 PB3/JTDO (io), 40 PB4/JNTRST (io), 41 PB5 (io), 42 PB6 (io), 43 PB7 (io), 44 BOOT0 (in), 45 PB8 (io), 46 PB9 (io), 47 VSS_3 (power), 48 VDD_3 (power)
2 alternate drawings of the same symbol

## STM32F103C8T6_2
designator U?, comment STM32L151C8T6
footprint QFP48
pins: 1 VBAT (power), 2 PC13-TAMPER-RTC (io), 3 PC14-OSC32_IN (io), 4 PC15-OSC32_OUT (io), 5 OSC_IN/PD0 (in), 6 OSC_OUT/PD1 (out), 7 NRST (io), 8 VSSA (power), 9 VDDA (power), 10 PA0-WKUP (io), 11 PA1 (io), 12 PA2 (io), 13 PA3 (io), 14 PA4 (io), 15 PA5 (io), 16 PA6 (io), 17 PA7 (io), 18 PB0 (io), 19 PB1 (io), 20 PB2/BOOT1 (io), 21 PB10 (io), 22 PB11 (io), 23 VSS_1 (power), 24 VDD_1 (power), 25 PB12 (io), 26 PB13 (io), 27 PB14 (io), 28 PB15 (io), 29 PA8 (io), 30 PA9 (io), 31 PA10 (io), 32 PA11 (io), 33 PA12 (io), 34 PA13/JTMS/SWDIO (io), 35 VSS_2 (power), 36 VDD_2 (power), 37 PA14/JTCK/SWCLK (io), 38 PA15/JTDI (io), 39 PB3/JTDO (io), 40 PB4/JNTRST (io), 41 PB5 (io), 42 PB6 (io), 43 PB7 (io), 44 BOOT0 (in), 45 PB8 (io), 46 PB9 (io), 47 VSS_3 (power), 48 VDD_3 (power)
2 alternate drawings of the same symbol

## SW-PB
designator S?, comment 按键
Switch; Published: 24-Mar-1999; LatestRevisionDate: 17-Jul-2002; LatestRevisionNote: Re-released for DXP Platform.; PackageReference: SPST-2; Publisher: Altium Limited; PackageDescription: Switch; 2 Leads
footprint sw_pb
pins: 1, 2

## SW-PB_1
designator S?, comment 按键
Switch; Published: 24-Mar-1999; LatestRevisionDate: 17-Jul-2002; LatestRevisionNote: Re-released for DXP Platform.; PackageReference: SPST-2; Publisher: Altium Limited; PackageDescription: Switch; 2 Leads
footprint sw_pb
pins: 1, 2

## SW-PB_2
designator S?, comment 按键
Switch; Published: 24-Mar-1999; LatestRevisionDate: 17-Jul-2002; LatestRevisionNote: Re-released for DXP Platform.; PackageReference: SPST-2; Publisher: Altium Limited; PackageDescription: Switch; 2 Leads
footprint sw_pb
pins: 1, 2

## SW-SPDT
designator S?
SPDT Subminiature Toggle Switch, Right Angle Mounting, Vertical Actuation; Published: 24-Mar-1999; LatestRevisionDate: 17-Dec-2003; LatestRevisionNote: Schematic revised, PCB Footprint replaced.; DatasheetVersion: 05-Dec-2000; PackageReference: TL36WW15050; Publisher: Altium Limited; PackageDescription: Switch; 4 Leads; ComponentLink1Description: Manufacturer Link; ComponentLink1URL: http://www.apem.com
footprint key_3
pins: 1, 2, 3

## SW-SPDT_1
designator S?, comment SW-SPDT
SPDT Subminiature Toggle Switch, Right Angle Mounting, Vertical Actuation; Published: 24-Mar-1999; LatestRevisionDate: 17-Dec-2003; LatestRevisionNote: Schematic revised, PCB Footprint replaced.; DatasheetVersion: 05-Dec-2000; PackageReference: TL36WW15050; Publisher: Altium Limited; PackageDescription: Switch; 4 Leads; ComponentLink1Description: Manufacturer Link; ComponentLink1URL: http://www.apem.com
footprint key_3
pins: 1, 2, 3

## SW-SPDT_2
designator S?, comment SW-SPDT
SPDT Subminiature Toggle Switch, Right Angle Mounting, Vertical Actuation; Published: 24-Mar-1999; LatestRevisionDate: 17-Dec-2003; LatestRevisionNote: Schematic revised, PCB Footprint replaced.; DatasheetVersion: 05-Dec-2000; PackageReference: TL36WW15050; Publisher: Altium Limited; PackageDescription: Switch; 4 Leads; ComponentLink1Description: Manufacturer Link; ComponentLink1URL: http://www.apem.com
footprint key_3
pins: 1, 2, 3

## THS4001_SOP8
designator U?, comment THS4001
THS4001_SOP8
footprint LC-SOIC-8_150mil
pins: 1 NC, 2 -In, 3 +In, 4 -Vs (power), 5 NC, 6 OUT, 7 +Vs (power), 8 NC

## TLP2362
designator U?
footprint LC-SOP-5; pin to pad 3>2
pins: 1 Anode, 3 Cathode, 4 GND (power), 5 Vo, 6 Vcc (power)

## TPS54560
designator U?
footprint LC-SOIC-8_150mil
pins: 1 BOOT, 2 VIN, 3 EN, 4 RT/CLK, 5 FB, 6 COMP, 7 GND, 8 SW

## uu9.8-30mH
designator U?
footprint uu9.8-30mH
pins: 1, 2, 3, 4

## Volt Reg
designator VR?, comment XC6206P332MR
Voltage Regulator; Published: 24-Mar-1999; LatestRevisionDate: 29-May-2009; LatestRevisionNote: IPC-7351 Footprint Added.; PackageReference: D2PAK; Publisher: Altium Limited; PackageDescription: 3-Pin Transistor Outline Package 2.54 mm Pitch, 15.1 mm Lead Span
footprint s8550
pins: 1 Vin, 2 GND, 3 Vout

## Volt Reg_1
designator VR?, comment XC6206P332MR
Voltage Regulator; Published: 24-Mar-1999; LatestRevisionDate: 29-May-2009; LatestRevisionNote: IPC-7351 Footprint Added.; PackageReference: D2PAK; Publisher: Altium Limited; PackageDescription: 3-Pin Transistor Outline Package 2.54 mm Pitch, 15.1 mm Lead Span
footprint s8550
pins: 1 Vin, 2 GND, 3 Vout

## Volt Reg_2
designator VR?, comment XC6206P332MR
Voltage Regulator; Published: 24-Mar-1999; LatestRevisionDate: 29-May-2009; LatestRevisionNote: IPC-7351 Footprint Added.; PackageReference: D2PAK; Publisher: Altium Limited; PackageDescription: 3-Pin Transistor Outline Package 2.54 mm Pitch, 15.1 mm Lead Span
footprint s8550
pins: 1 Vin, 2 GND, 3 Vout

## X电容
designator C?
pins: 1, 2

## Y 电容
designator C?
pins: 1, 2

## 单电压输出端子
designator J?
pins: 1 +, 2 -

## 压敏电阻
designator RV？
pins: 1, 2

## 正负电压输出端子
designator J?
pins: 1 +, 2 -, 3 GND

## 泄放电阻
designator R？
pins: 1, 2

## 稳压管
designator D?
pins: A, K

## 肖特基二极管
designator D?
pins: A, K

## 负载电阻
designator R?
pins: 1, 2